# Altium footprint library Passives.PcbLib: 19 footprints (part 1 of 2)
Each footprint in its own frame and in the unit in brackets; x right, y up, seen from the top. Pads: shape width x height; smd on the part's side, far side on the other; paste and mask are expansions set on the pad; w line width, h text height; cw(c..) or ccw(c..) is an arc to the next point about the centre after c.
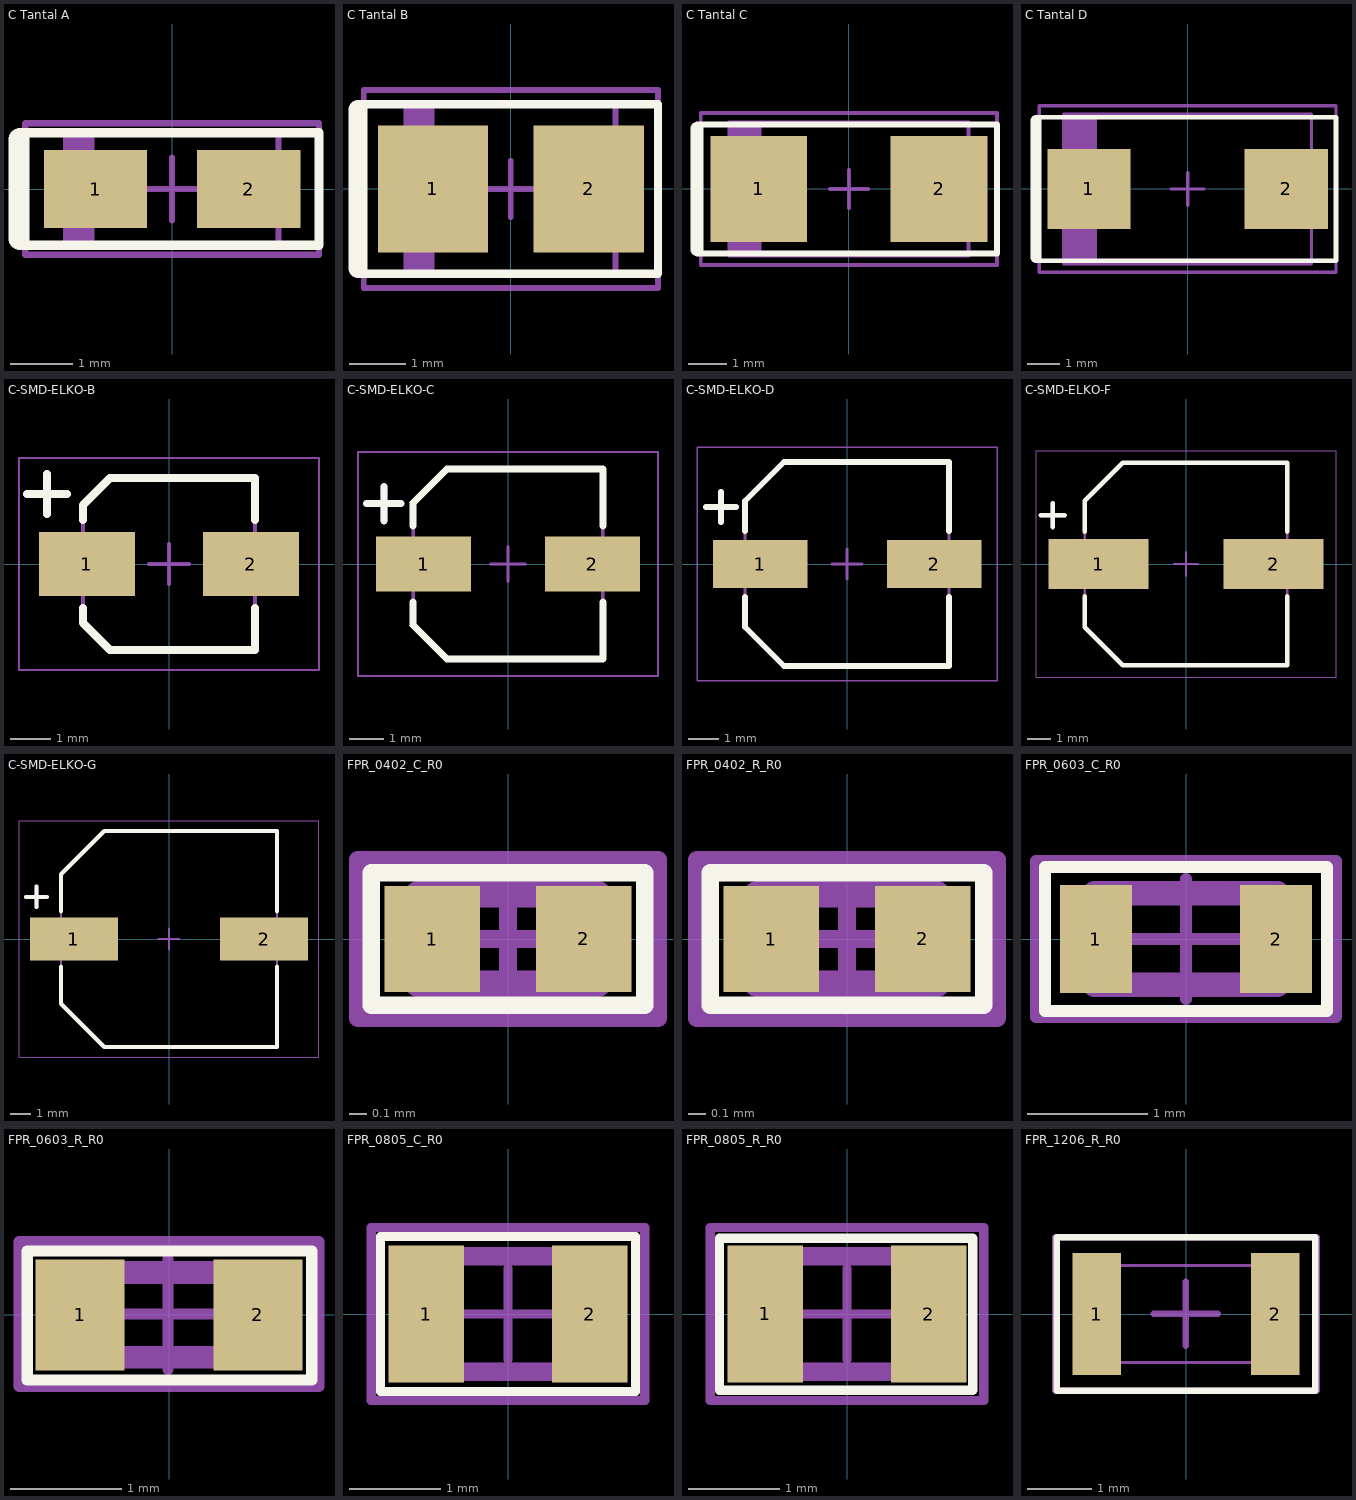
[diagram p0: the footprints below, top view; thin cyan lines are the x and y axes]

## C Tantal A [mm] "Molded Capacitor, 2-Leads, Body 3,2x1,6mm, IPC Medium Density"
height 1.8
pads (2):
  rect 1.65x1.25 smd: 1(-1.225,0) 2(1.225,0)
Top Overlay:
  lines w0.15: -2.45,-0.9 2.35,-0.9 2.35,0.9 -2.45,0.9
  lines w0.34: -2.45,-0.8 -2.45,0.8
Top Designator:
  text ".Comment" at -0.889,-1.27 h0.64
  text ".Designator" at -0.889,0.635 h0.64
Top Component Outline:
  rectangle: -1.7,-0.9 -1.243,0.9
  lines w0.1: -1.7,-0.9 -1.7,0.9 1.7,0.9 1.7,-0.9 -1.7,-0.9
Top Courtyard:
  lines w0.1: -0.5,0 0.5,0 ; 0,-0.5 0,0.5 ; -2.35,-1.05 -2.35,1.05 2.35,1.05 2.35,-1.05 -2.35,-1.05
3D body "User Library-cap_a.step": height 1.63, standoff 0.02, extent -1.595,-0.813 1.595,0.787

## C Tantal B [mm] "Molded Capacitor, 2-Leads, Body 3,5x2,8mm, IPC Medium Density"
height 2.1
pads (2):
  rect 1.95x2.25 smd: 1(-1.375,0) 2(1.375,0)
Top Overlay:
  lines w0.15: -2.7,-1.5 2.6,-1.5 2.6,1.5 -2.7,1.5
  lines w0.34: -2.7,-1.4 -2.7,1.4
Top Designator:
  text ".Comment" at -0.889,-1.27 h0.64
  text ".Designator" at -0.889,0.635 h0.64
Top Component Outline:
  rectangle: -1.85,-1.5 -1.352,1.5
  lines w0.1: -1.85,-1.5 1.85,-1.5 1.85,1.5 -1.85,1.5 -1.85,-1.5
Top Courtyard:
  lines w0.1: -0.5,0 0.5,0 ; 0,-0.5 0,0.5 ; -2.6,-1.75 -2.6,1.75 2.6,1.75 2.6,-1.75 -2.6,-1.75
3D body "User Library-cap_b.step": height 1.93, standoff 0.02, extent -1.695,-1.397 1.797,1.403

## C Tantal C [mm] "Molded Capacitor, 2-Leads, Body 6,0x3,2mm, IPC Medium Density"
height 2.8
pads (2):
  rect 2.55x2.794 smd: 1(-2.375,0) 2(2.375,0)
Top Overlay:
  lines w0.15: -4,-1.7 3.9,-1.7 3.9,1.7 -4,1.7
  lines w0.34: -4,-1.6 -4,1.6
Top Designator:
  text ".Designator" at -0.889,0.635 h0.64
  text ".Comment" at -0.889,-1.27 h0.64
Top Component Outline:
  rectangle: -3.15,-1.75 -2.303,1.75
  lines w0.1: -3.15,-1.75 3.15,-1.75 3.15,1.75 -3.15,1.75 -3.15,-1.75
Top Courtyard:
  lines w0.1: -0.5,0 0.5,0 ; 0,-0.5 0,0.5 ; -3.9,-2 -3.9,2 3.9,2 3.9,-2 -3.9,-2
3D body "User Library-cap_c.step": height 2.53, standoff 0.02, extent -2.972,-1.6 3.022,1.6

## C Tantal D [mm] "Molded Capacitor, 2-Leads, Body 7,3x4,3mm, IPC Medium Density"
height 3.1
pads (2):
  rect 2.55x2.45 smd: 1(-3.025,0) 2(3.025,0)
Top Overlay:
  lines w0.15: -4.65,-2.2 4.55,-2.2 4.55,2.2 -4.65,2.2
  lines w0.34: -4.65,-2.1 -4.65,2.1
Top Designator:
  text ".Comment" at -0.889,-1.27 h0.64
  text ".Designator" at -0.889,0.635 h0.64
Top Component Outline:
  rectangle: -3.8,-2.3 -2.778,2.3
  lines w0.1: -3.8,-2.3 -3.8,2.3 3.8,2.3 3.8,-2.3 -3.8,-2.3
Top Courtyard:
  lines w0.1: -0.5,0 0.5,0 ; 0,-0.5 0,0.5 ; -4.55,-2.55 4.55,-2.55 4.55,2.55 -4.55,2.55 -4.55,-2.55
3D body "User Library-cap_d.step": height 2.83, standoff 0.02, extent -3.647,-2.159 3.647,2.141

## C-SMD-ELKO-B [mm] "Aluminum Electrolytic Capacitor, Body 4.20x4.20x6.10mm, IPC Medium Density"
height 6.1
pads (2):
  rect 2.4x1.6 smd: 1(-2.05,0) 2(2.05,0)
Top Overlay:
  lines w0.2: -3.55,1.75 -2.55,1.75 ; -3.05,1.25 -3.05,2.25 ; -2.15,-1.1 -2.15,-1.475 -1.475,-2.15 2.15,-2.15 2.15,-1.1 ; -2.15,1.1 -2.15,1.475 -1.475,2.15 2.15,2.15 2.15,1.1
Top Designator:
  text ".Designator" at -1.8,1.1 h0.64
  text ".Comment" at -1.9,-1.7 h0.64
Top Component Outline:
  lines w0.1: -2.15,-1.475 -2.15,1.475 -1.475,2.15 2.15,2.15 2.15,-2.15 -1.475,-2.15 -2.15,-1.475
  lines w0.2: -3.55,1.75 -2.55,1.75 ; -3.05,1.25 -3.05,2.25
Top Courtyard:
  lines w0.05: -3.75,-2.65 -3.75,2.65 3.75,2.65 3.75,-2.65 -3.75,-2.65
  lines w0.1: -0.5,0 0.5,0 ; 0,-0.5 0,0.5
3D body "User Library-ALU-B.STEP": height 5.4, standoff 0, extent -2.3,-2.15 2.3,2.15

## C-SMD-ELKO-C [mm] "Aluminum Electrolytic Capacitor, Body 5.30x5.30x6.10mm, IPC Medium Density"
height 6.1
pads (2):
  rect 2.75x1.6 smd: 1(-2.45,0) 2(2.45,0)
Top Overlay:
  lines w0.2: -4.1,1.75 -3.1,1.75 ; -3.6,1.25 -3.6,2.25 ; -2.75,-1.1 -2.75,-1.775 -1.775,-2.75 2.75,-2.75 2.75,-1.1 ; -2.75,1.1 -2.75,1.775 -1.775,2.75 2.75,2.75 2.75,1.1
Top Designator:
  text ".Designator" at -2.05,1.4 h0.64
  text ".Comment" at -2.15,-2.05 h0.64
Top Component Outline:
  lines w0.1: -2.75,-1.775 -2.75,1.775 -1.775,2.75 2.75,2.75 2.75,-2.75 -1.775,-2.75 -2.75,-1.775
  lines w0.2: -4.1,1.75 -3.1,1.75 ; -3.6,1.25 -3.6,2.25
Top Courtyard:
  lines w0.05: -4.35,-3.25 4.35,-3.25 4.35,3.25 -4.35,3.25 -4.35,-3.25
  lines w0.1: -0.5,0 0.5,0 ; 0,-0.5 0,0.5
3D body "User Library-ALU-C.STEP": height 5.41, standoff 0, extent -2.95,-2.65 2.95,2.65

## C-SMD-ELKO-D [mm] "Aluminum Electrolytic Capacitor, Body 6.60x6.60x6.10mm, IPC Medium Density"
height 6.1
pads (2):
  rect 3.15x1.6 smd: 1(-2.9,0) 2(2.9,0)
Top Overlay:
  lines w0.2: -4.7,1.9 -3.7,1.9 ; -4.2,1.4 -4.2,2.4 ; -3.4,-1.1 -3.4,-2.1 -2.1,-3.4 3.4,-3.4 3.4,-1.1 ; -3.4,1.1 -3.4,2.1 -2.1,3.4 3.4,3.4 3.4,1.1
Top Designator:
  text ".Designator" at -2.8,1.4 h0.64
  text ".Comment" at -2.9,-2.05 h0.64
Top Component Outline:
  lines w0.1: -3.4,-2.1 -2.1,-3.4 3.4,-3.4 3.4,3.4 -2.1,3.4 -3.4,2.1 -3.4,-2.1
  lines w0.2: -4.7,1.9 -3.7,1.9 ; -4.2,1.4 -4.2,2.4
Top Courtyard:
  lines w0.05: -5,-3.9 -5,3.9 5,3.9 5,-3.9 -5,-3.9
  lines w0.1: -0.5,0 0.5,0 ; 0,-0.5 0,0.5
3D body "User Library-ALU-D.STEP": height 5.4, standoff 0, extent -3.5,-3.3 3.5,3.3

## C-SMD-ELKO-F [mm] "Aluminum Electrolytic Capacitor, Body 8.30x8.30x10.50mm, IPC Medium Density"
height 10.5
pads (2):
  rect 4.2x2.1 smd: 1(-3.675,0) 2(3.675,0)
Top Overlay:
  lines w0.2: -6.1,2.05 -5.1,2.05 ; -5.6,1.55 -5.6,2.55 ; -4.25,-1.35 -4.25,-2.65 -2.65,-4.25 4.25,-4.25 4.25,-1.35 ; -4.25,1.35 -4.25,2.65 -2.65,4.25 4.25,4.25 4.25,1.35
Top Designator:
  text ".Designator" at -2.8,2.9 h0.64
  text ".Comment" at -2.9,-3.3 h0.64
Top Component Outline:
  lines w0.1: -4.25,-2.65 -2.65,-4.25 4.25,-4.25 4.25,4.25 -2.65,4.25 -4.25,2.65 -4.25,-2.65
  lines w0.2: -6.1,2.05 -5.1,2.05 ; -5.6,1.55 -5.6,2.55
Top Courtyard:
  lines w0.05: -6.3,-4.75 -6.3,4.75 6.3,4.75 6.3,-4.75 -6.3,-4.75
  lines w0.1: -0.5,0 0.5,0 ; 0,-0.5 0,0.5
3D body "User Library-ALU-F.STEP": height 10.2, standoff 0, extent -4.95,-4.15 4.95,4.15

## C-SMD-ELKO-G [mm] "Aluminum Electrolytic Capacitor, Body 10.30x10.30x10.50mm, IPC Medium Density"
height 10.5
pads (2):
  rect 4.3x2.1 smd: 1(-4.625,0) 2(4.625,0)
Top Overlay:
  lines w0.2: -6.95,2.05 -5.95,2.05 ; -6.45,1.55 -6.45,2.55 ; -5.25,-1.35 -5.25,-3.15 -3.15,-5.25 5.25,-5.25 5.25,-1.35 ; -5.25,1.35 -5.25,3.15 -3.15,5.25 5.25,5.25 5.25,1.35
Top Designator:
  text ".Designator" at -2.8,2.9 h0.64
  text ".Comment" at -2.9,-3.3 h0.64
Top Component Outline:
  lines w0.1: -5.25,-3.15 -3.15,-5.25 5.25,-5.25 5.25,5.25 -3.15,5.25 -5.25,3.15 -5.25,-3.15
  lines w0.2: -6.95,2.05 -5.95,2.05 ; -6.45,1.55 -6.45,2.55
Top Courtyard:
  lines w0.05: -7.3,-5.75 -7.3,5.75 7.3,5.75 7.3,-5.75 -7.3,-5.75
  lines w0.1: -0.5,0 0.5,0 ; 0,-0.5 0,0.5
3D body "User Library-ALU-G.STEP": height 10.2, standoff 0, extent -5.8,-5.15 5.8,5.15

## FPR_0402_C_R0 [mm] "SMD Reflow"
height 0.762
pads (2):
  rect 0.54x0.6 smd: 1(-0.43,0) 2(0.43,0)
Top Overlay:
  lines w0.1: -0.775,-0.375 0.775,-0.375 0.775,0.375 -0.775,0.375 -0.775,-0.375
Top Designator:
  text ".Designator" at -0.889,0.635 h0.64
  text ".Comment" at -0.889,-1.27 h0.64
Top Component Outline:
  lines w0.15: -0.508,-0.254 0.508,-0.254 0.508,0.254 -0.508,0.254 -0.508,-0.254
Top Courtyard:
  lines w0.1: -0.3,0 0.3,0 ; 0,-0.3 0,0.3 ; -0.85,-0.45 0.85,-0.45 0.85,0.45 -0.85,0.45 -0.85,-0.45
3D body "cap0402.step": height 0.22, standoff 0.02, extent -0.5,-0.3 0.5,0.3

## FPR_0402_R_R0 [mm] "SMD Reflow"
height 0.762
pads (2):
  rect 0.54x0.6 smd: 1(-0.43,0) 2(0.43,0)
Top Overlay:
  lines w0.1: -0.775,-0.375 -0.775,0.375 0.775,0.375 0.775,-0.375 -0.775,-0.375
Top Designator:
  text ".Comment" at -0.889,-1.27 h0.64
  text ".Designator" at -0.889,0.635 h0.64
Top Component Outline:
  lines w0.15: -0.508,-0.254 0.508,-0.254 0.508,0.254 -0.508,0.254 -0.508,-0.254
Top Courtyard:
  lines w0.1: -0.3,0 0.3,0 ; 0,-0.3 0,0.3 ; -0.85,-0.45 0.85,-0.45 0.85,0.45 -0.85,0.45 -0.85,-0.45
3D body "res0402.STEP": height 0.22, standoff 0.02, extent -0.5,-0.3 0.5,0.3

## FPR_0603_C_R0 [mm] "SMD Reflow"
height 0.762
pads (2):
  rect 0.6x0.9 smd: 1(-0.75,0) 2(0.75,0)
Top Overlay:
  lines w0.1: -1.175,-0.6 1.175,-0.6 1.175,0.6 -1.175,0.6 -1.175,-0.6
Top Designator:
  text ".Comment" at -1.27,-1.524 h0.64
  text ".Designator" at -0.761,-0.339 h0.64
Top Component Outline:
  lines w0.203: -0.635,-0.381 -0.635,0.381 ; 0.635,-0.381 0.635,0.381 ; -0.762,-0.381 0.762,-0.381 0.762,0.381 -0.762,0.381 -0.762,-0.381
Top Courtyard:
  lines w0.1: -0.5,0 0.5,0 ; 0,-0.5 0,0.5 ; -1.25,-0.65 -1.25,0.65 1.25,0.65 1.25,-0.65 -1.25,-0.65
3D body "cap0603.step": height 0.32, standoff 0.02, extent -0.8,-0.4 0.8,0.4

## FPR_0603_R_R0 [mm] "SMD Reflow"
height 0.762
pads (2):
  rect 0.8x1 smd: 1(-0.8,0) 2(0.8,0)
Top Overlay:
  lines w0.1: -1.276,-0.585 1.285,-0.585 1.285,0.575 -1.276,0.575 -1.276,-0.585
Top Designator:
  text ".Comment" at -0.889,-1.27 h0.64
  text ".Designator" at -0.889,0.635 h0.64
Top Component Outline:
  lines w0.203: -0.635,-0.381 -0.635,0.381 ; 0.635,-0.381 0.635,0.381 ; -0.762,-0.381 -0.762,0.381 0.762,0.381 0.762,-0.381 -0.762,-0.381
Top Courtyard:
  lines w0.1: -0.509,0.008 0.491,0.008 ; -0.009,-0.492 -0.009,0.508 ; -1.35,-0.642 -1.35,0.658 1.35,0.658 1.35,-0.642 -1.35,-0.642
3D body "res0603.STEP": height 0.47, standoff 0.02, extent -0.8,-0.41 0.8,0.41

## FPR_0805_C_R0 [mm] "SMD Reflow"
height 0.508
pads (2):
  rect 0.83x1.5 smd: 1(-0.895,0) 2(0.895,0)
Top Overlay:
  lines w0.1: -1.4,-0.85 1.4,-0.85 1.4,0.85 -1.4,0.85 -1.4,-0.85
Top Designator:
  text ".Comment" at -1.016,-1.524 h0.64
  text ".Designator" at -0.635,-0.381 h0.64
Top Component Outline:
  lines w0.203: -0.889,-0.635 -0.889,0.635 ; 0.889,-0.635 0.889,0.635 ; -1.016,-0.635 -1.016,0.635 1.016,0.635 1.016,-0.635 -1.016,-0.635
Top Courtyard:
  lines w0.1: -0.5,0 0.5,0 ; 0,-0.5 0,0.5 ; -1.5,-0.95 -1.5,0.95 1.5,0.95 1.5,-0.95 -1.5,-0.95
3D body "cap0805.step": height 0.8, standoff 0.02, extent -1,-0.625 1,0.625

## FPR_0805_R_R0 [mm] "SMD Reflow"
height 0.508
pads (2):
  rect 0.83x1.5 smd: 1(-0.895,0) 2(0.895,0)
Top Overlay:
  lines w0.1: -1.4,-0.836 1.379,-0.836 1.379,0.831 -1.4,0.831 -1.4,-0.836
Top Designator:
  text ".Comment" at -1.016,-1.524 h0.64
  text ".Designator" at -0.635,-0.381 h0.64
Top Component Outline:
  lines w0.203: -0.889,-0.635 -0.889,0.635 ; 0.889,-0.635 0.889,0.635 ; -1.016,-0.635 1.016,-0.635 1.016,0.635 -1.016,0.635 -1.016,-0.635
Top Courtyard:
  lines w0.1: -0.5,0 0.5,0 ; 0,-0.5 0,0.5 ; -1.5,-0.95 1.5,-0.95 1.5,0.95 -1.5,0.95 -1.5,-0.95
3D body "res0805.STEP": height 0.8, standoff 0.02, extent -1,-0.625 1,0.625

## FPR_1206_R_R0 [mil] "SMD Reflow"
pads (2):
  rect 30x75 smd: 1(-55,0) 2(55,0)
Top Overlay:
  lines w3.94: -79.72,-47.24 79.72,-47.24 79.72,47.24 -79.72,47.24 -79.72,-47.24
Top Designator:
  text ".Comment" at -45,-35 h25
  text ".Designator" at -45,10 h25
Top Component Outline:
  lines w1.97: -60,-30 60,-30 60,30 -60,30 -60,-30
Top Courtyard:
  lines w3.94: -19.81,0.16 19.56,0.16 ; -0.13,-19.52 -0.13,19.85 ; -80.71,-47.24 80.71,-47.24 80.71,47.24 -80.71,47.24 -80.71,-47.24
3D body "User Library-1206 SMD Resistor.step": height 40.05, standoff 0.6, extent -62.99,-31.99 62.99,31